# Altium footprint library Cell_Tester.PcbLib: 14 footprints
Each footprint in its own frame and in the unit in brackets; x right, y up, seen from the top. Pads: shape width x height; smd on the part's side, far side on the other; paste and mask are expansions set on the pad; w line width, h text height; cw(c..) or ccw(c..) is an arc to the next point about the centre after c.
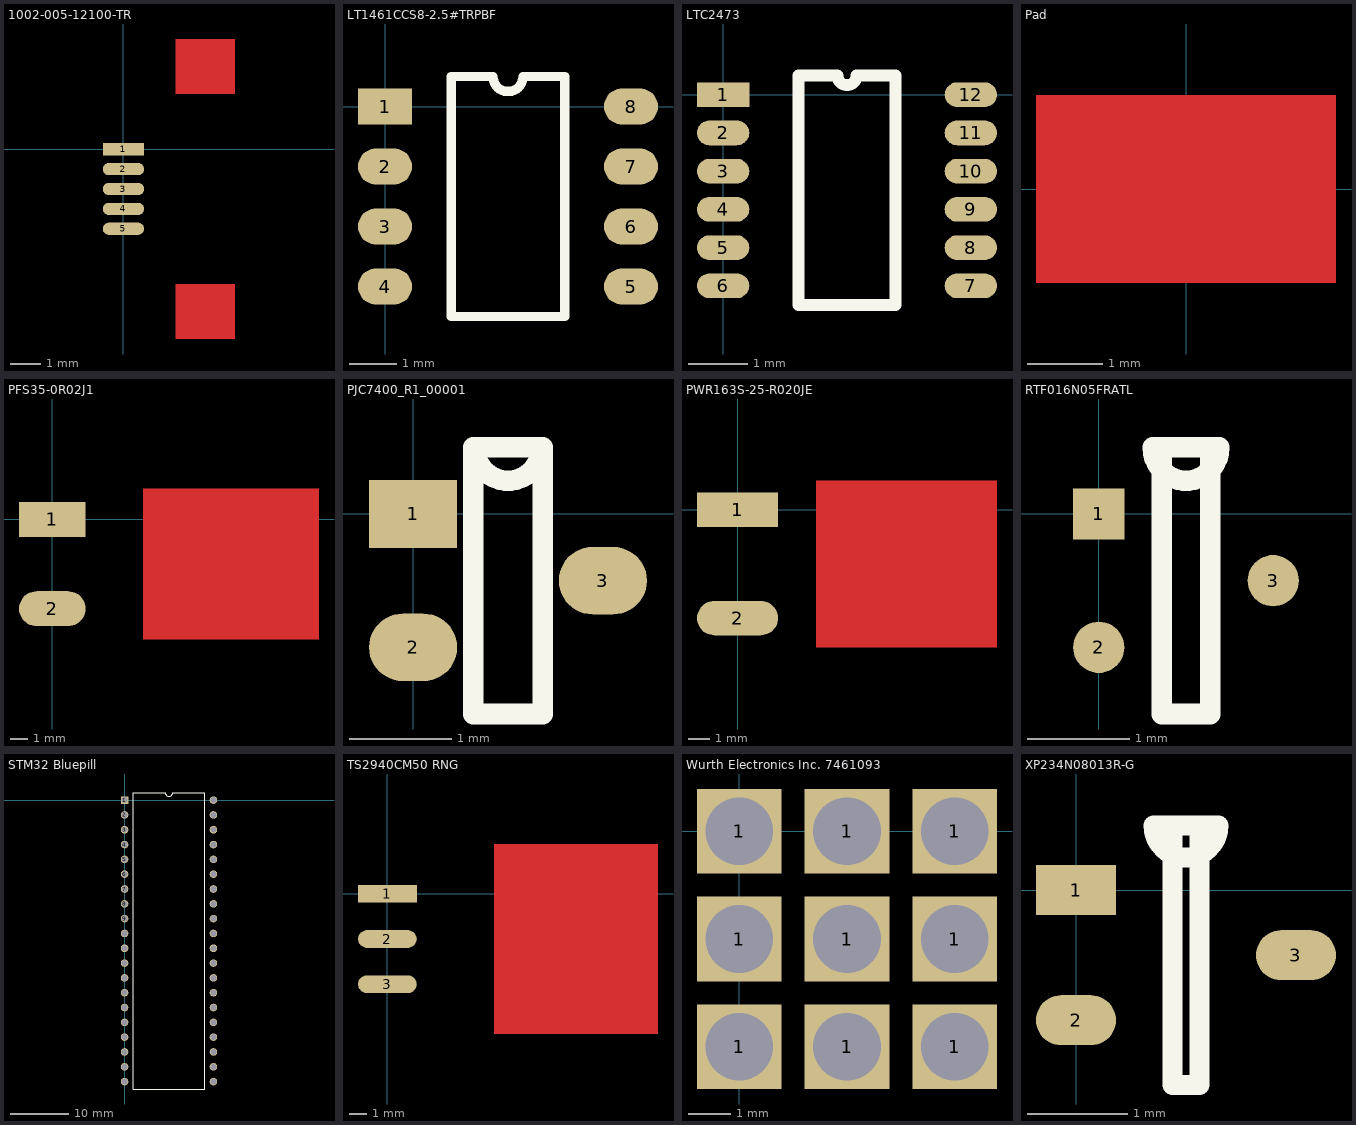
[diagram p0: the footprints below, top view; thin cyan lines are the x and y axes]

## 1002-005-12100-TR [mm]
pads (5):
  rect 1.35x0.4 smd: 1(0,0)
  oval 1.35x0.4 smd: 2(0,-0.65) 3(0,-1.3) 4(0,-1.95) 5(0,-2.6)
Top Layer:
  rectangle: 1.7,-6.2 3.65,-4.4
  rectangle: 1.7,1.8 3.65,3.6

## LT1461CCS8-2.5#TRPBF [mil]
pads (8):
  rect 45x30 smd: 1(0,0)
  oval 45x30 smd: 2(0,-50) 3(0,-100) 4(0,-150) 5(205,-150) 6(205,-100) 7(205,-50) 8(205,0)
Top Overlay:
  lines w7.87: 55.37,-175 149.63,-175 149.63,25 115,25 cw(c102.5,25) 90,25 55.37,25 55.37,-175

## LTC2473 [mm]
pads (12):
  rect 0.889x0.42 smd: 1(0,0)
  oval 0.889x0.42 smd: 2(0,-0.65) 3(0,-1.3) 4(0,-1.95) 5(0,-2.6) 6(0,-3.25) 7(4.211,-3.25) 8(4.211,-2.6) 9(4.211,-1.95) 10(4.211,-1.3) 11(4.211,-0.65) 12(4.211,0)
Top Overlay:
  lines w0.2: 1.279,-3.575 2.932,-3.575 2.932,0.325 2.268,0.325 cw(c2.105,0.325) 1.943,0.325 1.279,0.325 1.279,-3.575

## Pad [mm]
Top Layer:
  rectangle: -2,-1.25 2,1.25

## PFS35-0R02J1 [mm]
pads (2):
  rect 3.8x2 smd: 1(0,0)
  oval 3.8x2 smd: 2(0,-5.1)
Top Layer:
  rectangle: 5.183,-6.868 15.216,1.768

## PJC7400_R1_00001 [mm]
pads (3):
  rect 0.86x0.66 smd: 1(0,0)
  oval 0.86x0.66 smd: 2(0,-1.3) 3(1.85,-0.65)
Top Overlay:
  lines w0.2: 0.585,-1.95 1.265,-1.95 1.265,0.65 0.6,0.65 ccw(c0.925,0.65) 1.25,0.65 0.585,0.65 0.585,-1.95

## PWR163S-25-R020JE [mm]
pads (2):
  rect 3.81x1.62 smd: 1(0,0)
  oval 3.81x1.62 smd: 2(0,-5.08)
Top Layer:
  rectangle: 3.685,-6.475 12.195,1.395

## RTF016N05FRATL [mm]
pads (3):
  rect 0.5x0.5 smd: 1(0,0)
  round 0.5 smd: 2(0,-1.3) 3(1.7,-0.65)
Top Overlay:
  lines w0.2: 0.525,0.65 ccw(c0.85,0.65) 1.175,0.65 0.615,0.65 0.615,-1.95 1.085,-1.95 1.085,0.65 0.525,0.65

## SDF DF072S [mm]
via 15,0 diameter 1.778 hole 1.5
via 0,0 diameter 1.778 hole 1.5

## STM32 Bluepill [mm]
pads (40):
  rect 1.3x1.3 hole 1.02: 1(0,0)
  round 1.3 hole 1.02: 2(0,-2.54) 3(0,-5.08) 4(0,-7.62) 5(0,-10.16) 6(0,-12.7) 7(0,-15.24) 8(0,-17.78) 9(0,-20.32) 10(0,-22.86) 11(0,-25.4) 12(0,-27.94) 13(0,-30.48) 14(0,-33.02) 15(0,-35.56) 16(0,-38.1) 17(0,-40.64) 18(0,-43.18) 19(0,-45.72) 20(0,-48.26) 21(15.24,-48.26) 22(15.24,-45.72) 23(15.24,-43.18) 24(15.24,-40.64) 25(15.24,-38.1) 26(15.24,-35.56) 27(15.24,-33.02) 28(15.24,-30.48) 29(15.24,-27.94) 30(15.24,-25.4) 31(15.24,-22.86) 32(15.24,-20.32) 33(15.24,-17.78) 34(15.24,-15.24) 35(15.24,-12.7) 36(15.24,-10.16) 37(15.24,-7.62) 38(15.24,-5.08) 39(15.24,-2.54) 40(15.24,0)
Top Overlay:
  lines w0.2: 1.485,-49.53 1.485,1.27 6.985,1.27 ccw(c7.62,1.27) 8.255,1.27 13.755,1.27 13.755,-49.53 1.485,-49.53

## TH410J42GBSN-T5 [mm]
via 0,0 diameter 0.762 hole 0.6
via 4.5,0 diameter 0.762 hole 0.6

## TS2940CM50 RNG [mm]
pads (3):
  rect 3.3x1 smd: 1(0,0)
  oval 3.3x1 smd: 2(0,-2.54) 3(0,-5.08)
Top Layer:
  rectangle: 6,-7.875 15.2,2.795

## Wurth Electronics Inc. 7461093 [mm]
pads (9):
  rect 2x2 hole 1.6 square: 1(0,-5.1) 1(0,-2.55) 1(0,0) 1(2.55,-5.1) 1(2.55,-2.55) 1(2.55,0) 1(5.1,-5.1) 1(5.1,-2.55) 1(5.1,0)
3D body "7461093 (rev1).stp": height 6, standoff -3.5, extent -0.95,-6.05 6.05,0.95

## XP234N08013R-G [mm]
pads (3):
  rect 0.8x0.5 smd: 1(0,0)
  oval 0.8x0.5 smd: 2(0,-1.3) 3(2.2,-0.65)
Top Overlay:
  lines w0.2: 0.775,0.65 ccw(c1.1,0.65) 1.425,0.65 0.965,0.65 0.965,-1.95 1.235,-1.95 1.235,0.65 0.775,0.65